# EAGLE library part ADR441 (library mylibrary)
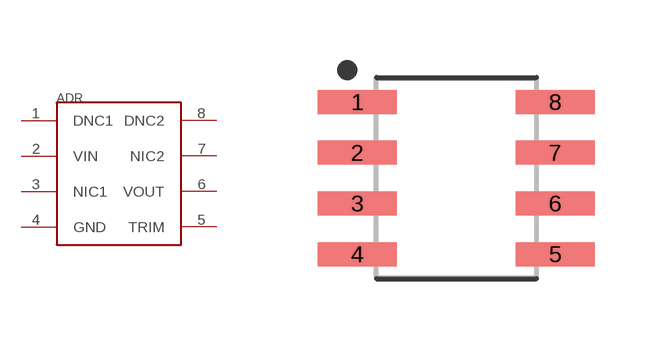
[diagram p1: symbol with the pads of SOIC127P600X175-8; footprint SOIC127P600X175-8]

Designator prefix ADR

## ADR441N  [SOIC127P600X175-8]
1  DNC1
2  VIN
3  NIC1
4  GND
5  TRIM
6  VOUT
7  NIC2
8  DNC2

## Footprint SOIC127P600X175-8 (pad centres in mm)
8-SOIC, 1.27 mm pitch, 6 mm span, 4.9 X 3.9 X 1.75 mm body 8-pin SOIC package with 1.27 mm pitch, 6 mm span with body size 4.9 X 3.9 X 1.75 mm
smd 1.968 x 0.599: 1 -2.473,1.905; 2 -2.473,0.635; 3 -2.473,-0.635; 4 -2.473,-1.905; 5 2.473,-1.905; 6 2.473,-0.635; 7 2.473,0.635; 8 2.473,1.905